# Altium footprint library PCB - CONNECTOR - RF - MOLEX SD-73251-129.PCBLIB: 1 footprints
Each footprint in its own frame and in the unit in brackets; x right, y up, seen from the top. Pads: shape width x height; smd on the part's side, far side on the other; paste and mask are expansions set on the pad; w line width, h text height; cw(c..) or ccw(c..) is an arc to the next point about the centre after c.
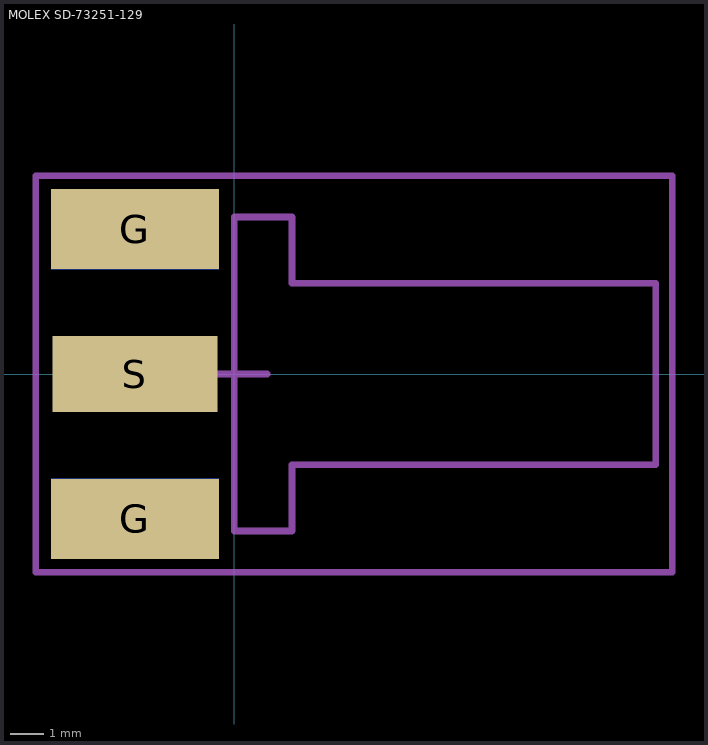
[diagram p0: the footprint, top view; thin cyan lines are the x and y axes]

## MOLEX SD-73251-129 [mm]
pads (5):
  rect 5.08x2.415 smd: G(-3,-4.383) G(-3,4.383)
  rect 5.08x2.415 smd far side: G(-3,-4.383) G(-3,4.383)
  rect 5x2.29 smd: S(-3,0)
Mechanical 1:
  lines w0.2: 0,-4.75 0,4.75 1.75,4.75 1.75,2.75 12.75,2.75 12.75,-2.75 1.75,-2.75 1.75,-4.75 0,-4.75
Mechanical 15:
  lines w0.2: -1,0 1,0 ; 0,-1 0,1 ; -6,-6 13.25,-6 13.25,6 -6,6 -6,-6
3D body "MOLEX SD-73251-129.stp": height 4.36, standoff -3.56, extent -4.75,-4.765 12.7,4.765